# Altium footprint library SAMTEC_FTSH-105-XX-X-DV.PcbLib: 1 footprints
Each footprint in its own frame and in the unit in brackets; x right, y up, seen from the top. Pads: shape width x height; smd on the part's side, far side on the other; paste and mask are expansions set on the pad; w line width, h text height; cw(c..) or ccw(c..) is an arc to the next point about the centre after c.
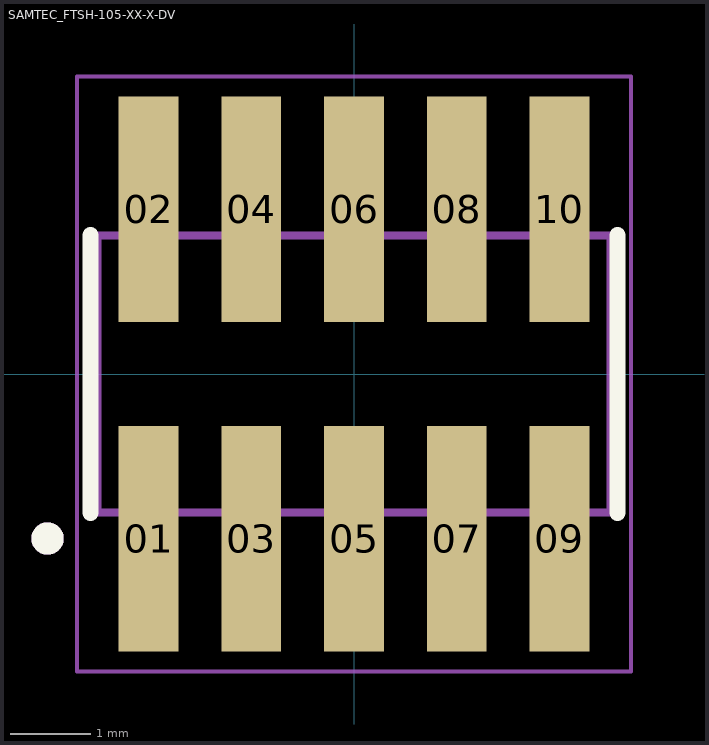
[diagram p0: the footprint, top view; thin cyan lines are the x and y axes]

## SAMTEC_FTSH-105-XX-X-DV [mm]
pads (10):
  rect 0.74x2.79 smd: 01(-2.54,-2.035) 02(-2.54,2.035) 03(-1.27,-2.035) 04(-1.27,2.035) 05(0,-2.035) 06(0,2.035) 07(1.27,-2.035) 08(1.27,2.035) 09(2.54,-2.035) 10(2.54,2.035)
Top Overlay:
  circle w0.2: c-3.79,-2.035 r0.1
  lines w0.2: -3.26,-1.715 -3.26,1.715 ; 3.26,-1.715 3.26,1.715
Mechanical 13:
  circle w0.2: c-3.79,-2.035 r0.1
  lines w0.1: -3.175,-1.715 3.175,-1.715 3.175,1.715 -3.175,1.715 -3.175,-1.715
Mechanical 15:
  lines w0.05: -3.425,-3.68 3.425,-3.68 3.425,3.68 -3.425,3.68 -3.425,-3.68
3D body "FTSH-105-01-L-DV-K.stp": height 2.92, standoff -2.92, extent -3.048,-3.061 3.302,3.061